# Altium footprint library Discrete.PCBLIB: 128 footprints (part 8 of 8)
Each footprint in its own frame and in the unit in brackets; x right, y up, seen from the top. Pads: shape width x height; smd on the part's side, far side on the other; paste and mask are expansions set on the pad; w line width, h text height; cw(c..) or ccw(c..) is an arc to the next point about the centre after c.
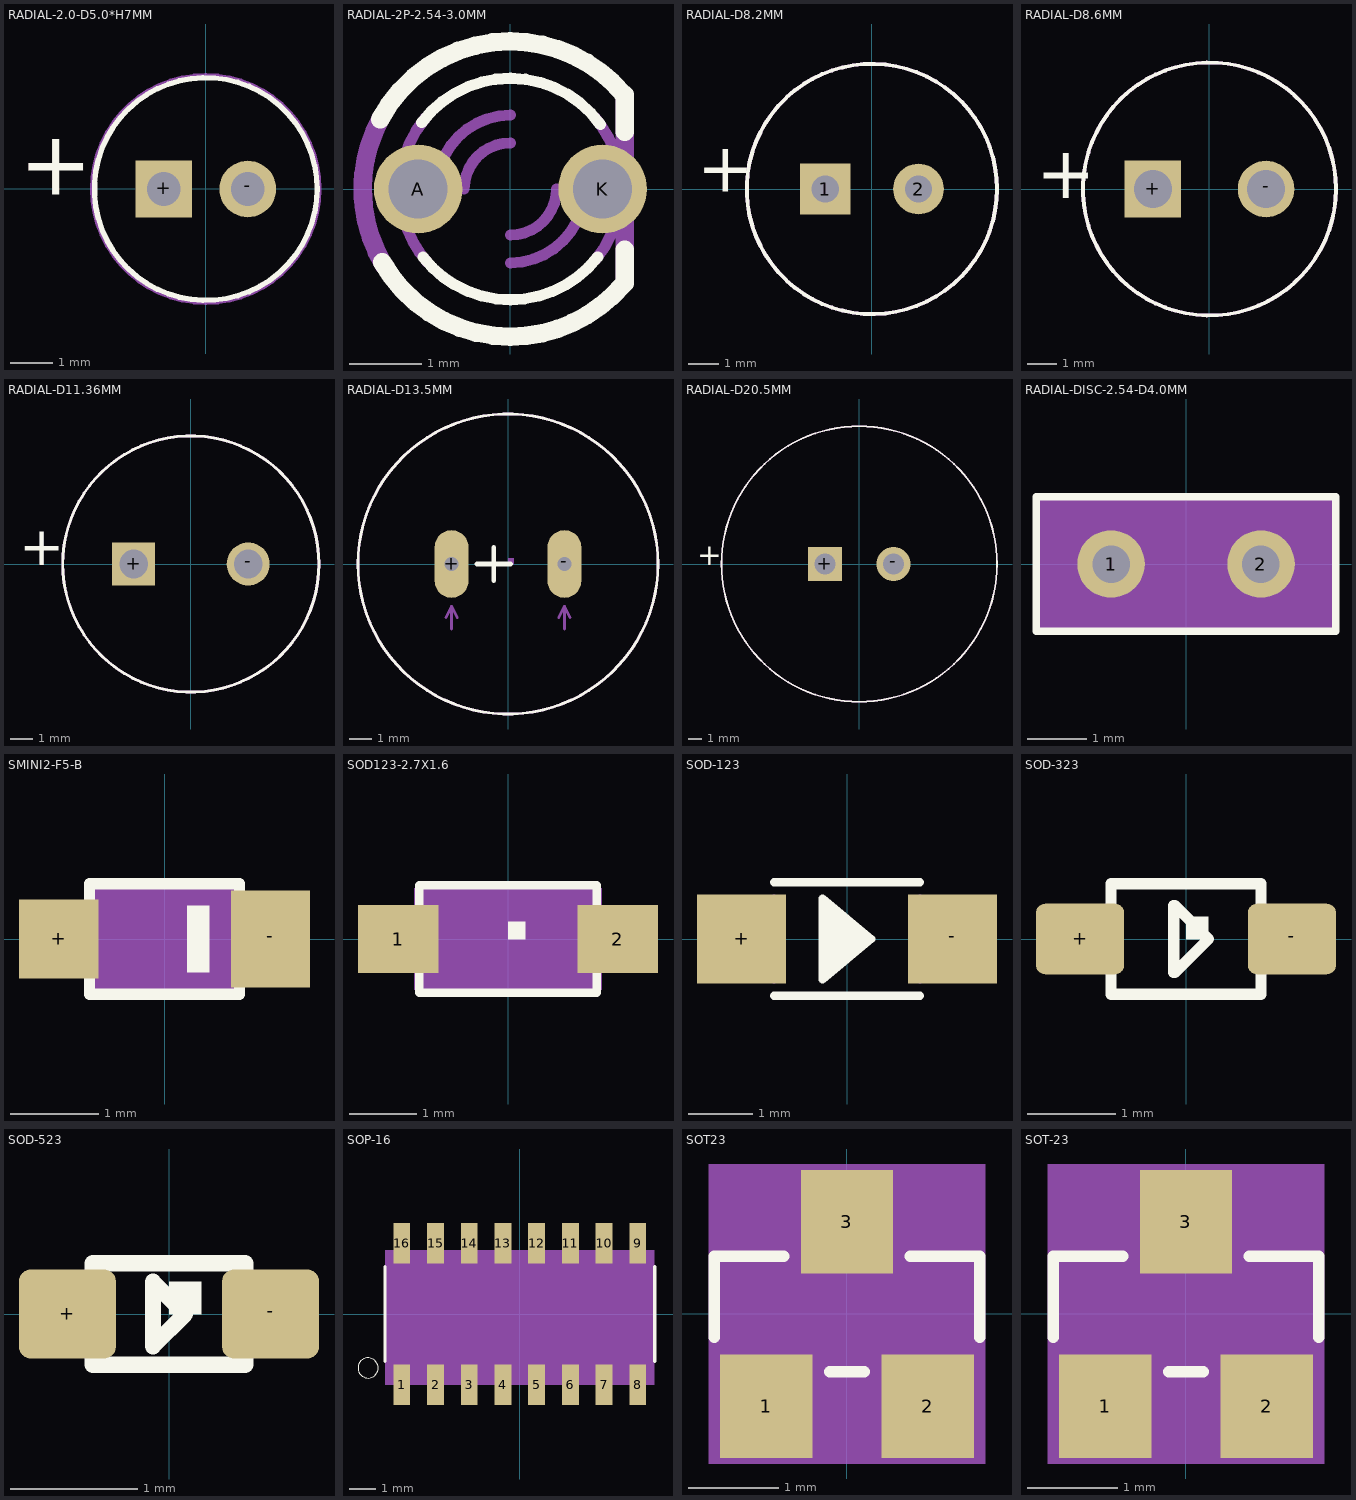
[diagram p7: the footprints below, top view; thin cyan lines are the x and y axes]

## RADIAL-2.0-D5.0*H7MM [mm]
pads (2):
  rect 1.35x1.35 hole 0.8: +(-1,0)
  round 1.35 hole 0.8: -(1,0)
Top Overlay:
  circle w0.127: c0,0 r2.65
  text "+" at -4.445,-0.635 h2.6
Mechanical 27:
  circle w0.127: c0,0 r2.694

## RADIAL-2P-2.54-3.0MM [mil]
pads (2):
  round 48 hole 32: A(-50,0) K(50,0)
Top Overlay:
  lines w6: -48,36 cw(c0,0) 0,60 cw(c-0.01,0) 48.82,34.87 ; -47.36,-36.83 ccw(c0.01,0) 0,-60 ccw(c-0.01,0) 47.36,-36.83
  lines w10: -70.59,37.65 cw(c0,0) 0,80 cw(c0.01,0) 61.46,51.22 ; -69.46,-39.69 ccw(c0,0) 0,-80 ccw(c0,0) 61.07,-51.68 ; 62,-51 62,-33 ; 62,31 62,51
Mechanical 16:
  lines w6: -46.09,38.41 ccw(c0,-0.01) -60,0 ccw(c0,-0.01) -44.85,-39.86 ; -40,0 cw(c0,0) 0,40 ; -25,0 cw(c0,0) 0,25 ; 0,-40 ccw(c0,0) 40,0 ; 0,-25 ccw(c0,0) 25,0 ; 45.56,39.05 cw(c0,0.01) 60,0 cw(c0,0.01) 46.09,-38.41
  lines w10: -70.44,37.93 ccw(c0,0.01) -80,0 ccw(c0,0) -68.13,-41.93 ; 62,-50 62,50
Mechanical 27:
  lines w5: 60,-50 cw(c-2.5,0) 60,50 60,-50

## RADIAL-D8.2MM [mil]
pads (2):
  rect 65x65 hole 35: 1(-60,0)
  round 65 hole 35: 2(60,0)
Top Overlay:
  circle w5: c0,0 r161
  text "+" at -225,-25 h108.5
Mechanical 27:
  circle w5: c0,0 r161

## RADIAL-D8.6MM [mil]
pads (2):
  rect 75x75 hole 50: +(-75,0)
  round 75 hole 50: -(75,0)
Top Overlay:
  circle w5: c0,0 r167.7
  text "+" at -230,-35 h117.8
Mechanical 27:
  circle w5: c0,0 r167.7

## RADIAL-D11.36MM [mil]
pads (2):
  rect 75x75 hole 50: +(-100,0)
  round 75 hole 50: -(100,0)
Top Overlay:
  circle w5: c0,0 r223.61
  text "+" at -300,-25 h117.8
Mechanical 27:
  circle w5: c0,0 r223.61

## RADIAL-D13.5MM [mil]
pads (2):
  oval 60x120 hole 25: +(-100,0) -(100,0)
Top Overlay:
  circle w5: c0,0 r265.75
  lines w8: -55,0 5,0 ; -25,-30 -25,30
Mechanical 11:
  region: 0,0 10,0 10,10 0,10
  region: 0,0 10,0 10,10 0,10
  lines w5: -110,-95 -100,-75 ; -100,-115 -100,-75 ; -90,-95 -100,-75 ; 90,-95 100,-75 ; 100,-115 100,-75 ; 110,-95 100,-75
  text "2 Slot drills with copper" at -250,-150 h37.2
Mechanical 27:
  circle w5: c0,0 r265.75

## RADIAL-D20.5MM [mil]
pads (2):
  rect 100.39x100.39 hole 61.02: +(-100.39,0)
  round 100.39 hole 61.02: -(100.39,0)
Top Overlay:
  circle w5: c0,0 r403.54
  text "+" at -475,-25 h108.5
Mechanical 27:
  circle w5: c0,0 r403.54

## RADIAL-DISC-2.54-D4.0MM [mil]
pads (2):
  round 45 hole 25: 1(-50,0) 2(50,0)
Top Overlay:
  lines w5: -100,-45 100,-45 100,45 -100,45 -100,-45
Mechanical 27:
  rectangle: -100,-45 100,45

## SMINI2-F5-B [mil]
pads (2):
  rect 35.43x35.43 smd: +(-47.24,0)
  rect 35.43x43.31 smd: -(47.24,0)
Top Overlay:
  rectangle: 10,-15 20,15
  lines w5: -33.46,-24.61 33.46,-24.61 33.46,24.61 -33.46,24.61 -33.46,-24.61
Mechanical 27:
  rectangle: -33.46,-24.61 33.46,24.61

## SOD123-2.7X1.6 [mm]
pads (2):
  rect 1.2x1.02 smd: 1(-1.635,0) 2(1.635,0)
Top Overlay:
  region: 0,0 0.254,0 0.254,0.254 0,0.254
  lines w0.127: -1.325,-0.8 1.325,-0.8 1.325,0.8 -1.325,0.8 -1.325,-0.8
Mechanical 27:
  region: 1.397,0.762 -1.397,0.762 -1.397,-0.762 1.397,-0.762

## SOD-123 [mil]
pads (2):
  rect 55x55 smd: +(-65,0) -(65,0)
Top Overlay:
  lines w5: -45,-35 45,-35 ; -45,35 45,35 ; -5,0 -5,5 ; -15,-20 -15,-25 15,0 ; -15,-20 -15,-15 ; -15,-20 15,0 ; -15,-20 -10,20 10,0 -15,-15 ; -15,-15 -15,25 15,0 ; -15,-15 -10,15 5,0 -10,-10 -10,-5 ; -10,-5 -10,10 -5,5 ; -10,-5 0,0 -5,5 ; -10,-5 -5,5
Mechanical 16:
  region: 76.77,17.72 47.24,17.72 47.24,-15.75 76.77,-15.75
  region: -47.24,17.72 -76.77,17.72 -76.77,-15.75 -47.24,-15.75
  lines w5: -45,-25 -45,25 ; 45,-25 45,25

## SOD-323 [mil]
pads (2):
  rrect25% 39.37x31.5 smd: +(-47.24,0) -(47.24,0)
Top Overlay:
  region: 0,0 10,0 10,10 0,10
  lines w5: -5.51,-15 -5.51,15 ; -5,-15 10,0 -5,15 ; -33.46,-24.61 33.46,-24.61 33.46,24.61 -33.46,24.61 -33.46,-24.61

## SOD-523 [mil]
pads (2):
  rrect25% 30x27.56 smd: +(-31.5,0) -(31.5,0)
Top Overlay:
  region: 0,0 10,0 10,10 0,10
  lines w5: -23.62,-15.75 23.62,-15.75 23.62,15.75 -23.62,15.75 -23.62,-15.75 ; -5,-10 -5,10 5,0 -5,-10

## SOP-16 [mil]
pads (16):
  rect 25x60 smd: 1(-175,-105) 2(-125,-105) 3(-75,-105) 4(-25,-105) 5(25,-105) 6(75,-105) 7(125,-105) 8(175,-105) 9(175,105) 10(125,105) 11(75,105) 12(25,105) 13(-25,105) 14(-75,105) 15(-125,105) 16(-175,105)
Top Overlay:
  circle w0: c-225,-80 r15
  lines w5: -200,-70 -200,70 ; 200,-70 200,70
Mechanical 27:
  rectangle: -200,-105 200,95

## SOT23 [mil]
pads (3):
  rect 40x45 smd: 1(-35,-40) 2(35,-40) 3(0,40)
Top Overlay:
  lines w5: -57.5,-10 -57.5,25 -27.5,25 ; -7.5,-25 7.5,-25 ; 27.5,25 57.5,25 57.5,-10
Mechanical 16:
  rectangle: -9,28 9,51
  rectangle: 28,-51 46,-28
  rectangle: -46,-51 -28,-28
Mechanical 27:
  rectangle: -60,-65 60,65

## SOT-23 [mil]
pads (3):
  rect 40x45 smd: 1(-35,-40) 2(35,-40) 3(0,40)
Top Overlay:
  lines w5: -57.5,-10 -57.5,25 -27.5,25 ; -7.5,-25 7.5,-25 ; 27.5,25 57.5,25 57.5,-10
Mechanical 16:
  rectangle: -9,28 9,51
  rectangle: 28,-51 46,-28
  rectangle: -46,-51 -28,-28
Mechanical 27:
  rectangle: -60,-65 60,65